# EAGLE library part KYX-4301AS (library DSS0)
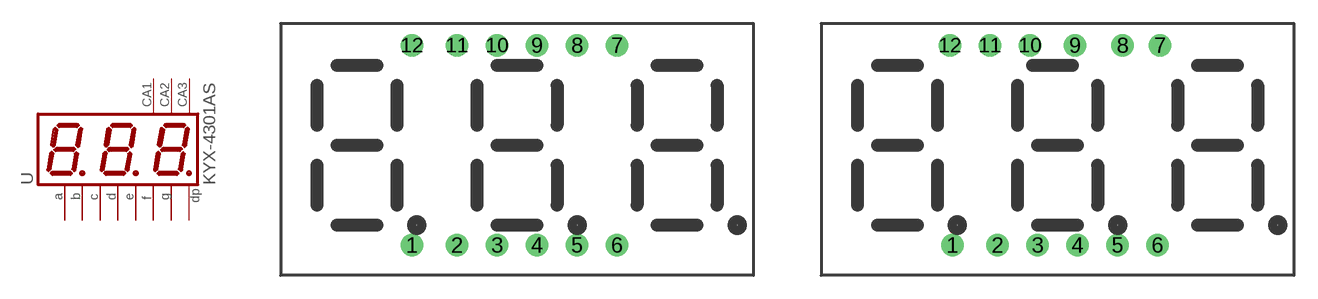
[diagram p3: symbol with the pads of KYX-4301AS; footprints KYX-4301AS, KYX-4301AS-1]

Designator prefix -

## KYX-4301AS3  [KYX-4301AS]
1  E  pas
2  D  pas
3  DP  pas
4  C  pas
5  G  pas
7  B  pas
8  CA3  pas
9  CA2  pas
10  F  pas
11  A  pas
12  CA1  pas

## KYX-4301AS1  [KYX-4301AS-1]
Pads as for KYX-4301AS

## KYX-4301AS2  [KYX-4301AS-2]
Pads as for KYX-4301AS

## Footprint KYX-4301AS (pad centres in mm)
THREE DIGIT NUMERIC DISPLAY Китайский 7 сегментный, 3 разрядный индикатор
drill 0.8 pad 1.422: 1 -6.668,-5.08; 2 -3.81,-5.08; 3 -1.27,-5.08; 4 1.27,-5.08; 5 3.81,-5.08; 6 6.35,-5.08; 7 6.35,7.62; 8 3.81,7.62; 9 1.27,7.62; 10 -1.27,7.62; 11 -3.81,7.62; 12 -6.668,7.62

## Footprint KYX-4301AS-1 (pad centres in mm)
THREE DIGIT NUMERIC DISPLAY Китайский 7 сегментный, 3 разрядный индикатор
drill 0.8 pad 1.422: 1 -6.668,-5.08; 2 -3.81,-5.08; 3 -1.27,-5.08; 4 1.27,-5.08; 5 3.81,-5.08; 6 6.35,-5.08; 7 6.509,7.62; 8 4.128,7.62; 9 1.111,7.62; 10 -1.746,7.62; 11 -4.286,7.62; 12 -6.826,7.62

## Footprint KYX-4301AS-2 (pad centres in mm)
THREE DIGIT NUMERIC DISPLAY Китайский 7 сегментный, 3 разрядный индикатор
drill 0.8 pad 1.422: 1 -6.668,-5.08; 2 -3.81,-5.08; 3 -1.27,-5.08; 4 1.27,-5.08; 5 3.81,-5.08; 6 6.35,-5.08; 7 6.509,7.62; 8 4.128,7.62; 9 1.587,7.62; 10 -1.27,7.62; 11 -4.128,7.62; 12 -6.668,7.62